# Altium schematic symbol library G8250041000YEU.SchLib: 1 symbol
Pins are listed as number, name and electrical type; pins without a type are passive.

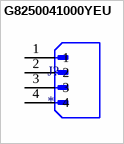
[diagram p0: symbol G8250041000YEU]

## G8250041000YEU
designator J?
Board mount - Header Plug - Pin Header 2.0mm Pitch Vertical,1x4Pin,Gold Flash,LCP,4.0mm*2.0mm*2.8mm; MP: G8250041000YEU; MF: Amphenol ICC (Commercial Products); Value: *; Package: None; Availability: In Stock; Price: None; SnapEDA_Link: https://www.snapeda.com/parts/G8250041000YEU/Amphenol+Commercial+Products/view-part/?ref=snap; Check_prices: https://www.snapeda.com/parts/G8250041000YEU/Amphenol+Commercial+Products/view-part/?ref=eda; Purchase-URL: https://pricing.snapeda.com/search/part/G8250041000YEU/?ref=eda
footprint AMPHENOL_G8250041000YEU
pins: 1, 2, 3, 4